# EAGLE library part HDR_2X03 (library GPLIB_CONN)
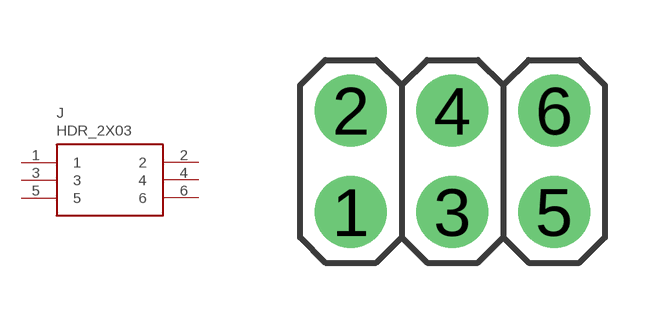
[diagram p29: symbol with the pads of HDR_2X03_2.54MM_TH_ST; footprint HDR_2X03_2.54MM_TH_ST]

Designator prefix J

## HDR_2X03_2.54MM_TH_ST  [HDR_2X03_2.54MM_TH_ST]
1  1  pas
2  2  pas
3  3  pas
4  4  pas
5  5  pas
6  6  pas

## Footprint HDR_2X03_2.54MM_TH_ST (pad centres in mm)
drill 1.05 pad 1.8: 1 -2.54,-1.27; 2 -2.54,1.27; 3 0,-1.27; 4 0,1.27; 5 2.54,-1.27; 6 2.54,1.27